# Altium schematic symbol library DMN3042L-7.SchLib: 1 symbol
Pins are listed as number, name and electrical type; pins without a type are passive.

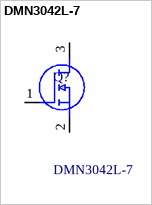
[diagram p0: symbol DMN3042L-7]

## DMN3042L-7
designator Q?
MOSFET 30V N-Ch Enh Mode 26.5mOhm 10V 5.8A; Manufacturer_Name: Diodes Incorporated; Geometry.Height: 1.15mm; Mouser Part Number: 621-DMN3042L-7; Mouser Price/Stock: https://www.mouser.co.uk/ProductDetail/Diodes-Incorporated/DMN3042L-7?qs=BvpHGKeVh3rQK2Uscu7jEw%3D%3D; Manufacturer_Part_Number: DMN3042L-7; Datasheet Link: https://www.diodes.com//assets/Datasheets/DMN3042L.pdf
footprint SOT96P240X115-3N
pins: 1 G, 2 S, 3 D